# Altium footprint library CONN_W2B_JST.PcbLib: 168 footprints (part 7 of 11)
Each footprint in its own frame and in the unit in brackets; x right, y up, seen from the top. Pads: shape width x height; smd on the part's side, far side on the other; paste and mask are expansions set on the pad; w line width, h text height; cw(c..) or ccw(c..) is an arc to the next point about the centre after c.
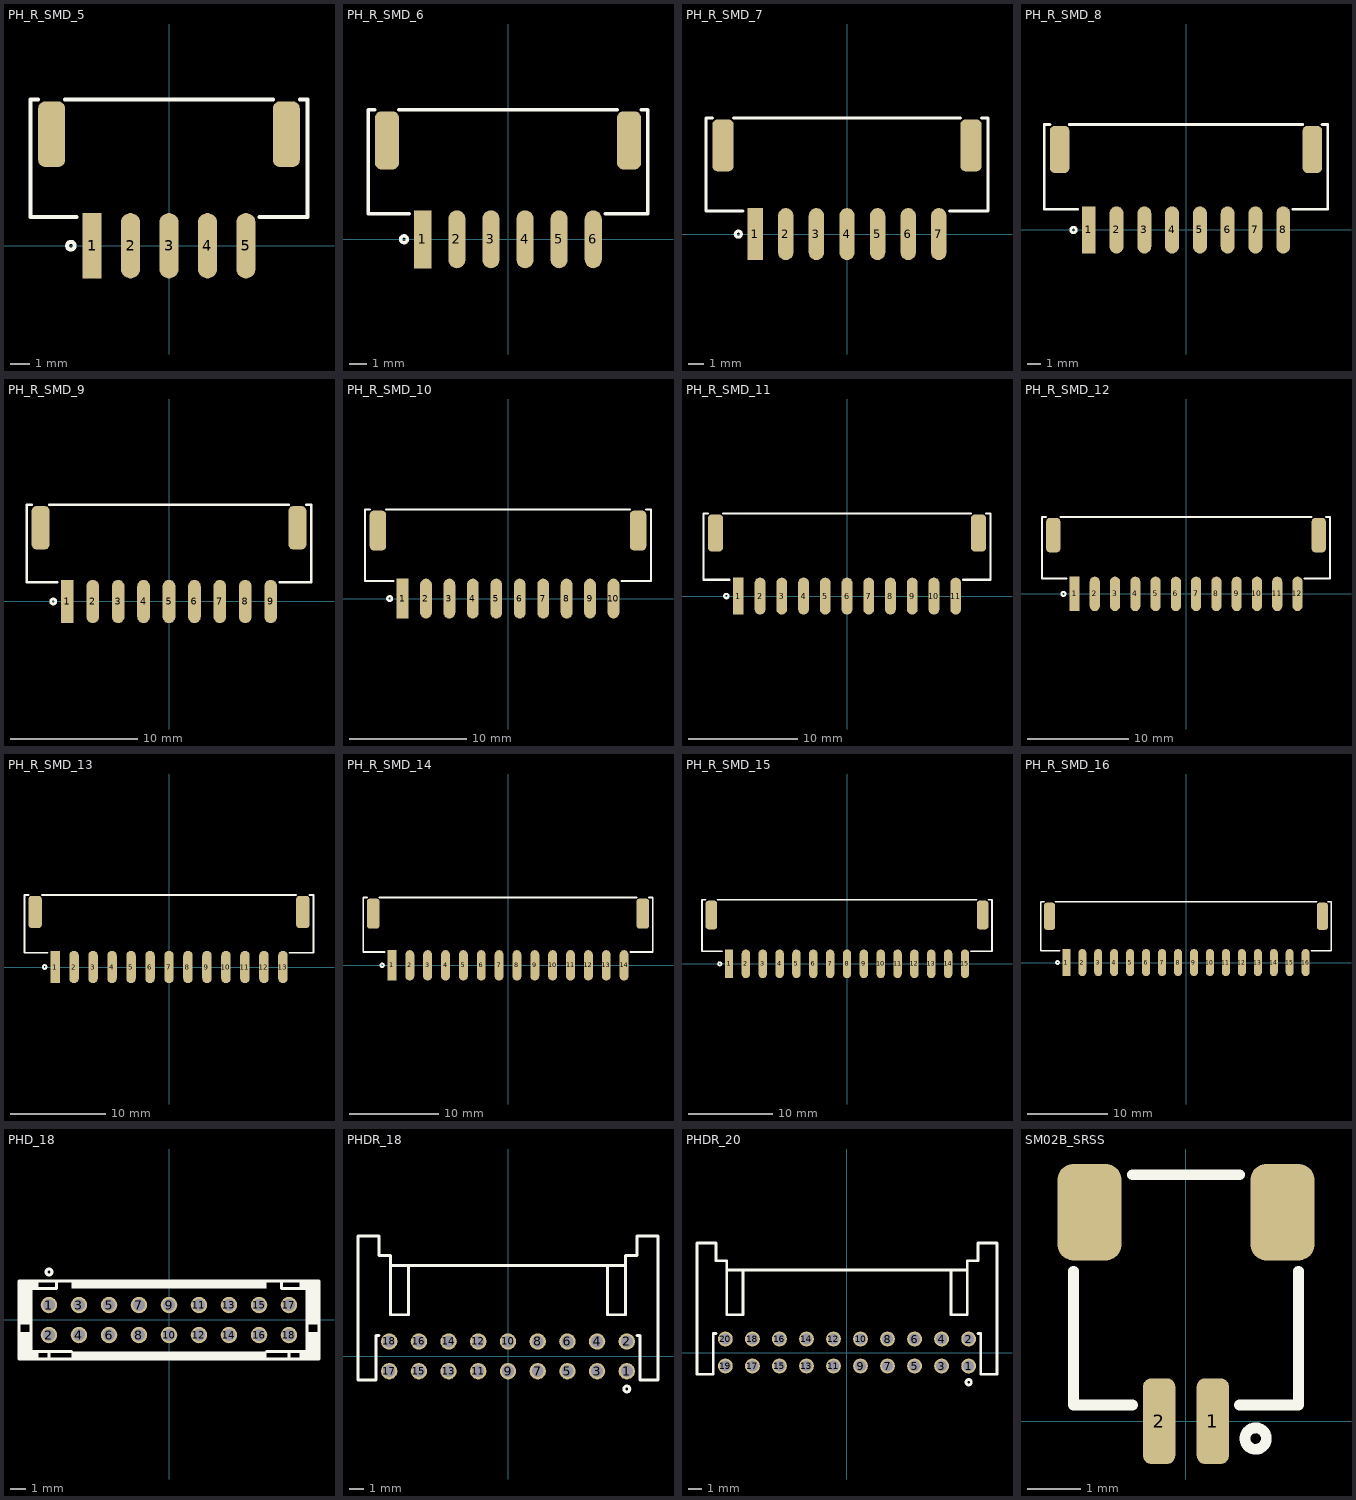
[diagram p6: the footprints below, top view; thin cyan lines are the x and y axes]

## PH_R_SMD_5 [mm] "JST PH Series, pitch: 2.0mm, 2.0A/100v, Right Angle, SMD"
pads (7):
  rect 1x3.4 smd: 1(-4,0)
  oval 1x3.4 smd: 2(-2,0) 3(0,0) 4(2,0) 5(4,0)
  rrect50% 1.4x3.4 smd: ""(-6.1,5.8) ""(6.1,5.8)
Top Overlay:
  circle w0.2: c-5.1,0 r0.2
  lines w0.2: -6.8,7.6 -7.2,7.6 -7.2,1.5 -4.8,1.5 ; -5.4,7.6 5.4,7.6 ; 4.7,1.5 7.2,1.5 7.2,7.6 6.8,7.6
3D body "JST - PH - SMD (R) - 5Pin - 2.00mm.stp": height 5.38, standoff 0, extent -7.073,-0.8 7.073,7.455

## PH_R_SMD_6 [mm] "JST PH Series, pitch: 2.0mm, 2.0A/100v, Right Angle, SMD"
pads (8):
  rect 1x3.4 smd: 1(-5,0)
  oval 1x3.4 smd: 2(-3,0) 3(-1,0) 4(1,0) 5(3,0) 6(5,0)
  rrect50% 1.4x3.4 smd: ""(-7.1,5.8) ""(7.1,5.8)
Top Overlay:
  circle w0.2: c-6.1,0 r0.2
  lines w0.2: -7.8,7.6 -8.2,7.6 -8.2,1.5 -5.8,1.5 ; -6.4,7.6 6.4,7.6 ; 5.7,1.5 8.2,1.5 8.2,7.6 7.8,7.6
3D body "JST - PH - SMD (R) - 6Pin - 2.00mm.stp": height 5.38, standoff 0, extent -8.073,-0.8 8.073,7.455

## PH_R_SMD_7 [mm] "JST PH Series, pitch: 2.0mm, 2.0A/100v, Right Angle, SMD"
pads (9):
  rect 1x3.4 smd: 1(-6,0)
  oval 1x3.4 smd: 2(-4,0) 3(-2,0) 4(0,0) 5(2,0) 6(4,0) 7(6,0)
  rrect50% 1.4x3.4 smd: ""(-8.1,5.8) ""(8.1,5.8)
Top Overlay:
  circle w0.2: c-7.1,0 r0.2
  lines w0.2: -8.8,7.6 -9.2,7.6 -9.2,1.5 -6.8,1.5 ; -7.4,7.6 7.4,7.6 ; 6.7,1.5 9.2,1.5 9.2,7.6 8.8,7.6
3D body "JST - PH - SMD (R) - 7Pin - 2.00mm.stp": height 5.38, standoff 0, extent -9.073,-0.8 9.073,7.455

## PH_R_SMD_8 [mm] "JST PH Series, pitch: 2.0mm, 2.0A/100v, Right Angle, SMD"
pads (10):
  rect 1x3.4 smd: 1(-7,0)
  oval 1x3.4 smd: 2(-5,0) 3(-3,0) 4(-1,0) 5(1,0) 6(3,0) 7(5,0) 8(7,0)
  rrect50% 1.4x3.4 smd: ""(-9.1,5.8) ""(9.1,5.8)
Top Overlay:
  circle w0.2: c-8.1,0 r0.2
  lines w0.2: -9.8,7.6 -10.2,7.6 -10.2,1.5 -7.8,1.5 ; -8.4,7.6 8.4,7.6 ; 7.7,1.5 10.2,1.5 10.2,7.6 9.8,7.6
3D body "JST - PH - SMD (R) - 8Pin - 2.00mm.stp": height 5.38, standoff 0, extent -10.073,-0.8 10.073,7.455

## PH_R_SMD_9 [mm] "JST PH Series, pitch: 2.0mm, 2.0A/100v, Right Angle, SMD"
pads (11):
  rect 1x3.4 smd: 1(-8,0)
  oval 1x3.4 smd: 2(-6,0) 3(-4,0) 4(-2,0) 5(0,0) 6(2,0) 7(4,0) 8(6,0) 9(8,0)
  rrect50% 1.4x3.4 smd: ""(-10.1,5.8) ""(10.1,5.8)
Top Overlay:
  circle w0.2: c-9.1,0 r0.2
  lines w0.2: -10.8,7.6 -11.2,7.6 -11.2,1.5 -8.8,1.5 ; -9.4,7.6 9.4,7.6 ; 8.7,1.5 11.2,1.5 11.2,7.6 10.8,7.6
3D body "JST - PH - SMD (R) - 9Pin - 2.00mm.stp": height 5.38, standoff 0, extent -11.073,-0.8 11.073,7.455

## PH_R_SMD_10 [mm] "JST PH Series, pitch: 2.0mm, 2.0A/100v, Right Angle, SMD"
pads (12):
  rect 1x3.4 smd: 1(-9,0)
  oval 1x3.4 smd: 2(-7,0) 3(-5,0) 4(-3,0) 5(-1,0) 6(1,0) 7(3,0) 8(5,0) 9(7,0) 10(9,0)
  rrect50% 1.4x3.4 smd: ""(-11.1,5.8) ""(11.1,5.8)
Top Overlay:
  circle w0.2: c-10.1,0 r0.2
  lines w0.2: -11.8,7.6 -12.2,7.6 -12.2,1.5 -9.8,1.5 ; -10.4,7.6 10.4,7.6 ; 9.7,1.5 12.2,1.5 12.2,7.6 11.8,7.6
3D body "JST - PH - SMD (R) - 10Pin - 2.00mm.stp": height 5.38, standoff 0, extent -12.073,-0.8 12.073,7.455

## PH_R_SMD_11 [mm] "JST PH Series, pitch: 2.0mm, 2.0A/100v, Right Angle, SMD"
pads (13):
  rect 1x3.4 smd: 1(-10,0)
  oval 1x3.4 smd: 2(-8,0) 3(-6,0) 4(-4,0) 5(-2,0) 6(0,0) 7(2,0) 8(4,0) 9(6,0) 10(8,0) 11(10,0)
  rrect50% 1.4x3.4 smd: ""(-12.1,5.8) ""(12.1,5.8)
Top Overlay:
  circle w0.2: c-11.1,0 r0.2
  lines w0.2: -12.8,7.6 -13.2,7.6 -13.2,1.5 -10.8,1.5 ; -11.4,7.6 11.4,7.6 ; 10.7,1.5 13.2,1.5 13.2,7.6 12.8,7.6
3D body "JST - PH - SMD (R) - 11Pin - 2.00mm.stp": height 5.38, standoff 0, extent -13.073,-0.8 13.073,7.455

## PH_R_SMD_12 [mm] "JST PH Series, pitch: 2.0mm, 2.0A/100v, Right Angle, SMD"
pads (14):
  rect 1x3.4 smd: 1(-11,0)
  oval 1x3.4 smd: 2(-9,0) 3(-7,0) 4(-5,0) 5(-3,0) 6(-1,0) 7(1,0) 8(3,0) 9(5,0) 10(7,0) 11(9,0) 12(11,0)
  rrect50% 1.4x3.4 smd: ""(-13.1,5.8) ""(13.1,5.8)
Top Overlay:
  circle w0.2: c-12.1,0 r0.2
  lines w0.2: -13.8,7.6 -14.2,7.6 -14.2,1.5 -11.8,1.5 ; -12.4,7.6 12.4,7.6 ; 11.7,1.5 14.2,1.5 14.2,7.6 13.8,7.6
3D body "JST - PH - SMD (R) - 12Pin - 2.00mm.stp": height 5.38, standoff 0, extent -14.073,-0.8 14.073,7.455

## PH_R_SMD_13 [mm] "JST PH Series, pitch: 2.0mm, 2.0A/100v, Right Angle, SMD"
pads (15):
  rect 1x3.4 smd: 1(-12,0)
  oval 1x3.4 smd: 2(-10,0) 3(-8,0) 4(-6,0) 5(-4,0) 6(-2,0) 7(0,0) 8(2,0) 9(4,0) 10(6,0) 11(8,0) 12(10,0) 13(12,0)
  rrect50% 1.4x3.4 smd: ""(-14.1,5.8) ""(14.1,5.8)
Top Overlay:
  circle w0.2: c-13.1,0 r0.2
  lines w0.2: -14.8,7.6 -15.2,7.6 -15.2,1.5 -12.8,1.5 ; -13.4,7.6 13.4,7.6 ; 12.7,1.5 15.2,1.5 15.2,7.6 14.8,7.6
3D body "JST - PH - SMD (R) - 13Pin - 2.00mm.stp": height 5.38, standoff 0, extent -15.073,-0.8 15.073,7.455

## PH_R_SMD_14 [mm] "JST PH Series, pitch: 2.0mm, 2.0A/100v, Right Angle, SMD"
pads (16):
  rect 1x3.4 smd: 1(-13,0)
  oval 1x3.4 smd: 2(-11,0) 3(-9,0) 4(-7,0) 5(-5,0) 6(-3,0) 7(-1,0) 8(1,0) 9(3,0) 10(5,0) 11(7,0) 12(9,0) 13(11,0) 14(13,0)
  rrect50% 1.4x3.4 smd: ""(-15.1,5.8) ""(15.1,5.8)
Top Overlay:
  circle w0.2: c-14.1,0 r0.2
  lines w0.2: -15.8,7.6 -16.2,7.6 -16.2,1.5 -13.8,1.5 ; -14.4,7.6 14.4,7.6 ; 13.7,1.5 16.2,1.5 16.2,7.6 15.8,7.6
3D body "JST - PH - SMD (R) - 14Pin - 2.00mm.stp": height 5.38, standoff 0, extent -16.073,-0.8 16.073,7.455

## PH_R_SMD_15 [mm] "JST PH Series, pitch: 2.0mm, 2.0A/100v, Right Angle, SMD"
pads (17):
  rect 1x3.4 smd: 1(-14,0)
  oval 1x3.4 smd: 2(-12,0) 3(-10,0) 4(-8,0) 5(-6,0) 6(-4,0) 7(-2,0) 8(0,0) 9(2,0) 10(4,0) 11(6,0) 12(8,0) 13(10,0) 14(12,0) 15(14,0)
  rrect50% 1.4x3.4 smd: ""(-16.1,5.8) ""(16.1,5.8)
Top Overlay:
  circle w0.2: c-15.1,0 r0.2
  lines w0.2: -16.8,7.6 -17.2,7.6 -17.2,1.5 -14.8,1.5 ; -15.4,7.6 15.4,7.6 ; 14.7,1.5 17.2,1.5 17.2,7.6 16.8,7.6
3D body "JST - PH - SMD (R) - 15Pin - 2.00mm.stp": height 5.38, standoff 0, extent -17.073,-0.8 17.073,7.455

## PH_R_SMD_16 [mm] "JST PH Series, pitch: 2.0mm, 2.0A/100v, Right Angle, SMD"
pads (18):
  rect 1x3.4 smd: 1(-15,0)
  oval 1x3.4 smd: 2(-13,0) 3(-11,0) 4(-9,0) 5(-7,0) 6(-5,0) 7(-3,0) 8(-1,0) 9(1,0) 10(3,0) 11(5,0) 12(7,0) 13(9,0) 14(11,0) 15(13,0) 16(15,0)
  rrect50% 1.4x3.4 smd: ""(-17.1,5.8) ""(17.1,5.8)
Top Overlay:
  circle w0.2: c-16.1,0 r0.2
  lines w0.2: -17.8,7.6 -18.2,7.6 -18.2,1.5 -15.8,1.5 ; -16.4,7.6 16.4,7.6 ; 15.7,1.5 18.2,1.5 18.2,7.6 17.8,7.6
3D body "JST - PH - SMD (R) - 16Pin - 2.00mm.stp": height 5.38, standoff 0, extent -18.073,-0.8 18.073,7.455

## PHD_18 [mm] "PHD, Pitch: 2mm, side Entry, BxxB-PHDSS"
pads (18):
  round 1.1 / inner round 1.1 / far side oval 1.2x1.5 hole 0.8 mask+0.075: 1(-8,1) 2(-8,-1) 3(-6,1) 4(-6,-1) 5(-4,1) 6(-4,-1) 7(-2,1) 8(-2,-1) 9(0,1) 10(0,-1) 11(2,1) 12(2,-1) 13(4,1) 14(4,-1) 15(6,1) 16(6,-1) 17(8,1) 18(8,-1)
Top Overlay:
  circle w0.2: c-8,3.2 r0.2
  region: -6.5,2.6 -6.5,2.1 6.5,2.1 6.5,2.6
  region: -6.5,-2.6 -6.5,-2.1 6.5,-2.1 6.5,-2.6
  region: 10,2.6 8.8,2.6 8.8,2.1 9.2,2.1 9.2,-0.2 10,-0.2
  region: 10,-2.6 8.8,-2.6 8.8,-2.1 9.2,-2.1 9.2,-0.9 10,-0.9
  region: -10,2.6 -8.8,2.6 -8.8,2.1 -9.2,2.1 -9.2,-0.2 -10,-0.2
  region: -10,-2.6 -8.8,-2.6 -8.8,-2.1 -9.2,-2.1 -9.2,-0.9 -10,-0.9
  lines w0.2: -10,-0.9 -9.2,-0.9 ; -10,-0.2 -9.2,-0.2 ; -8.8,-2.6 -8.8,-2.1 ; -8.8,2.6 -8.8,2.1 ; -8,-2.6 -8,-2.1 ; -7.5,2.6 -7.5,2.1 -8.8,2.1 ; -6.5,-2.1 -8,-2.1 ; 6.5,-2.1 8,-2.1 ; 7.5,2.6 7.5,2.1 8.8,2.1 ; 8,-2.6 8,-2.1 ; 8.8,-2.6 8.8,-2.1 ; 8.8,2.6 8.8,2.1 ; 10,-0.9 9.2,-0.9 ; 10,-0.2 9.2,-0.2 ; -9.2,-0.9 -9.2,-2.1 -8.8,-2.1 ; -9.2,-0.9 -9.2,-0.2 ; -9.2,-0.2 -9.2,2.1 -8.8,2.1 ; -8.8,-2.1 -8,-2.1 ; 8,-2.1 8.8,-2.1 ; 8.8,-2.1 9.2,-2.1 9.2,-0.9 ; 8.8,2.1 9.2,2.1 9.2,-0.2 ; 9.2,-0.9 9.2,-0.2 ; 10,-2.6 10,2.6 ; 10,-2.6 -10,-2.6 -10,2.6 10,2.6 ; 10,-2.6 10,2.6
3D body "B18B-PHDSS.STEP": height 6.55, standoff -2.95, extent -9.95,-2.5 9.95,2.5

## PHDR_18 [mm] "PHD, Pitch: 2mm, side Entry, SxxB-PHDSS"
pads (18):
  round 1.1 / inner round 1.1 / far side oval 1.2x1.5 hole 0.8 mask+0.075: 1(8,-1) 2(8,1) 3(6,-1) 4(6,1) 5(4,-1) 6(4,1) 7(2,-1) 8(2,1) 9(0,-1) 10(0,1) 11(-2,-1) 12(-2,1) 13(-4,-1) 14(-4,1) 15(-6,-1) 16(-6,1) 17(-8,-1) 18(-8,1)
Top Overlay:
  circle w0.2: c8,-2.2 r0.2
  lines w0.2: -8.7,1.4 -8.9,1.4 -8.9,-1.6 -10.1,-1.6 -10.1,8.1 -8.7,8.1 -8.7,6.8 -7.9,6.8 -7.9,6.1 ; -6.7,6.1 -6.7,2.8 -7.9,2.8 -7.9,6.1 ; 6.7,6.1 6.7,2.8 7.9,2.8 7.9,6.1 ; 8.7,1.4 8.9,1.4 8.9,-1.6 10.1,-1.6 10.1,8.1 8.7,8.1 8.7,6.8 7.9,6.8 7.9,6.1 ; -7.9,6.1 7.9,6.1
3D body "S18B-PHDSS.STEP": height 5.05, standoff -2.95, extent -9.95,-1.495 9.95,8.005

## PHDR_20 [mm] "PHD, Pitch: 2mm, side Entry, SxxB-PHDSS"
pads (20):
  round 1.1 / inner round 1.1 / far side oval 1.2x1.5 hole 0.8 mask+0.075: 1(9,-1) 2(9,1) 3(7,-1) 4(7,1) 5(5,-1) 6(5,1) 7(3,-1) 8(3,1) 9(1,-1) 10(1,1) 11(-1,-1) 12(-1,1) 13(-3,-1) 14(-3,1) 15(-5,-1) 16(-5,1) 17(-7,-1) 18(-7,1) 19(-9,-1) 20(-9,1)
Top Overlay:
  circle w0.2: c9,-2.2 r0.2
  lines w0.2: -9.7,1.4 -9.9,1.4 -9.9,-1.6 -11.1,-1.6 -11.1,8.1 -9.7,8.1 -9.7,6.8 -8.9,6.8 -8.9,6.1 ; -7.7,6.1 -7.7,2.8 -8.9,2.8 -8.9,6.1 ; 7.7,6.1 7.7,2.8 8.9,2.8 8.9,6.1 ; 9.7,1.4 9.9,1.4 9.9,-1.6 11.1,-1.6 11.1,8.1 9.7,8.1 9.7,6.8 8.9,6.8 8.9,6.1 ; -8.9,6.1 8.9,6.1
3D body "S20B-PHDSS.STEP": height 5.05, standoff -2.95, extent -10.95,-1.495 10.95,8.005

## SM02B_SRSS [mm] "SH, Pitch: 1mm, side Entry, SMxxB-SRSS-TB"
pads (4):
  rrect50% 0.6x1.6 smd mask+0.075: 1(0.5,0) 2(-0.5,0)
  rrect50% 1.2x1.8 smd mask+0.075: ""(-1.8,3.9) ""(1.8,3.9)
Top Overlay:
  circle w0.2: c1.3,-0.325 r0.2
  lines w0.2: -2.1,2.8 -2.1,0.3 -1,0.3 ; -1,4.6 1,4.6 ; 1,0.3 2.1,0.3 2.1,2.8
3D body "SM02B-SRSS-TB.step": height 3, standoff 0, extent -1.994,-0.5 1.994,4.486